# EAGLE library part XBEE-S2C (library Oles komponentbibliotek)
Digi XBEE SMT
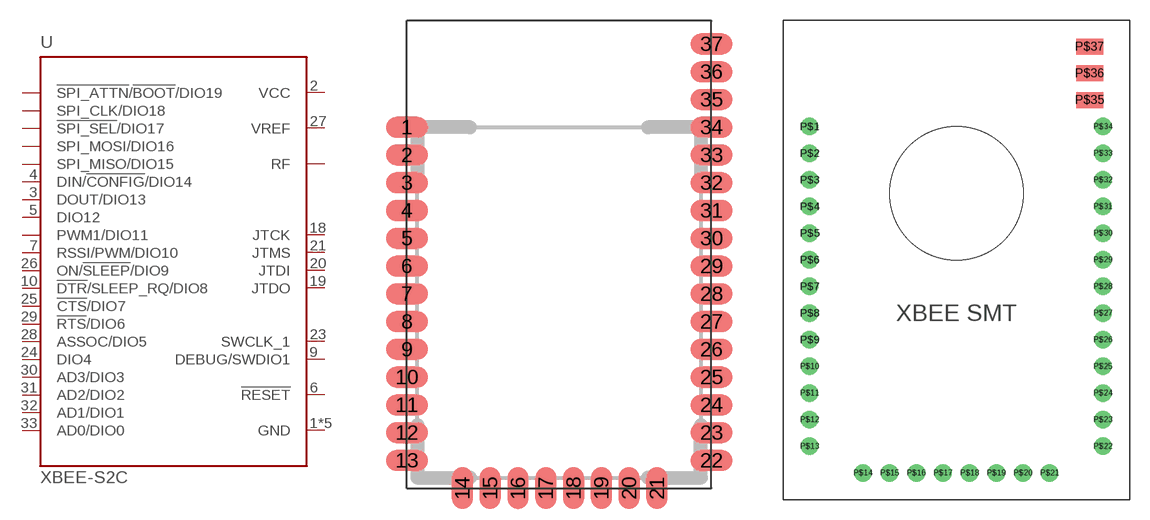
[diagram p55: symbol with the pads of XBEE-SMT; footprints XBEE-SMT, XBEE-SMT-SPRING-CONN]

Designator prefix -

## XBEE-S2CSMD  [XBEE-SMT]
1  GND  pwr
2  VCC  pwr
3  DOUT/DIO13
4  DIN/!CONFIG!/DIO14
5  DIO12
6  !RESET  in
7  RSSI/PWM/DIO10  out
8  PWM1/DIO11
9  DEBUG/SWDIO1
10  !DTR!/SLEEP_RQ/DIO8
11  GND  pwr
12  !SPI_ATTN!/!BOOT!/DIO19  out
13  GND  pwr
14  SPI_CLK/DIO18  in
15  !SPI_SEL!/DIO17  in
16  SPI_MOSI/DIO16  in
17  SPI_MISO/DIO15  out
18  JTCK  in
19  JTDO  out
20  JTDI  in
21  JTMS  in
22  GND  pwr
23  SWCLK_1
24  DIO4
25  !CTS!/DIO7
26  ON/!SLEEP!/DIO9  out
27  VREF  in
28  ASSOC/DIO5
29  !RTS!/DIO6
30  AD3/DIO3
31  AD2/DIO2
32  AD1/DIO1
33  AD0/DIO0
35  GND  pwr
36  RF

## XBEE-S2CTHROUGH-HOLE  [XBEE-SMT-SPRING-CONN]
P$1  GND  pwr
P$2  VCC  pwr
P$3  DOUT/DIO13
P$4  DIN/!CONFIG!/DIO14
P$5  DIO12
P$6  !RESET  in
P$7  RSSI/PWM/DIO10  out
P$8  PWM1/DIO11
P$9  DEBUG/SWDIO1
P$10  !DTR!/SLEEP_RQ/DIO8
P$11  GND  pwr
P$12  !SPI_ATTN!/!BOOT!/DIO19  out
P$13  GND  pwr
P$14  SPI_CLK/DIO18  in
P$15  !SPI_SEL!/DIO17  in
P$16  SPI_MOSI/DIO16  in
P$17  SPI_MISO/DIO15  out
P$18  JTCK  in
P$19  JTDO  out
P$20  JTDI  in
P$21  JTMS  in
P$22  GND  pwr
P$23  SWCLK_1
P$24  DIO4
P$25  !CTS!/DIO7
P$26  ON/!SLEEP!/DIO9  out
P$27  VREF  in
P$28  ASSOC/DIO5
P$29  !RTS!/DIO6
P$30  AD3/DIO3
P$31  AD2/DIO2
P$32  AD1/DIO1
P$33  AD0/DIO0
P$36  RF

## Footprint XBEE-SMT (pad centres in mm)
XBee SMT
smd 3.048 x 1.524: 1 0,26.086; 2 0,24.079; 3 0,22.073; 4 0,20.066; 5 0,18.059; 6 0,16.053; 7 0,14.046; 8 0,12.04; 9 0,10.033; 10 0,8.026; 11 0,6.02; 12 0,4.013; 13 0,2.007; 22 21.996,2.007; 23 21.996,4.013; 24 21.996,6.02; 25 21.996,8.026; 26 21.996,10.033; 27 21.996,12.04; 28 21.996,14.046; 29 21.996,16.053; 30 21.996,18.059; 31 21.996,20.066; 32 21.996,22.073; 33 21.996,24.079; 34 21.996,26.086; 35 21.996,28.092; 36 21.996,30.099; 37 21.996,32.106
smd 1.524 x 3.048: 14 4.013,0; 15 6.02,0; 16 8.026,0; 17 10.033,0; 18 12.04,0; 19 14.046,0; 20 16.053,0; 21 18.059,0

## Footprint XBEE-SMT-SPRING-CONN (pad centres in mm)
Spring-loaded header arrangement for the Digi XBEE SMT
drill 0.8: P$1 -11,11; P$2 -11,9; P$3 -11,7; P$4 -11,5; P$5 -11,3; P$6 -11,1; P$7 -11,-1; P$8 -11,-3; P$9 -11,-5; P$10 -11,-7; P$11 -11,-9; P$12 -11,-11; P$13 -11,-13; P$14 -7,-15; P$15 -5,-15; P$16 -3,-15; P$17 -1,-15; P$18 1,-15; P$19 3,-15; P$20 5,-15; P$21 7,-15; P$22 11,-13; P$23 11,-11; P$24 11,-9; P$25 11,-7; P$26 11,-5; P$27 11,-3; P$28 11,-1; P$29 11,1; P$30 11,3; P$31 11,5; P$32 11,7; P$33 11,9; P$34 11,11
smd 2 x 1.2: P$35 10,13; P$36 10,15; P$37 10,17
hole 10 at 0,6